# Altium footprint library Sensor Brushless Driver V1.01.PcbLib: 18 footprints (part 2 of 2)
Each footprint in its own frame and in the unit in brackets; x right, y up, seen from the top. Pads: shape width x height; smd on the part's side, far side on the other; paste and mask are expansions set on the pad; w line width, h text height; cw(c..) or ccw(c..) is an arc to the next point about the centre after c.
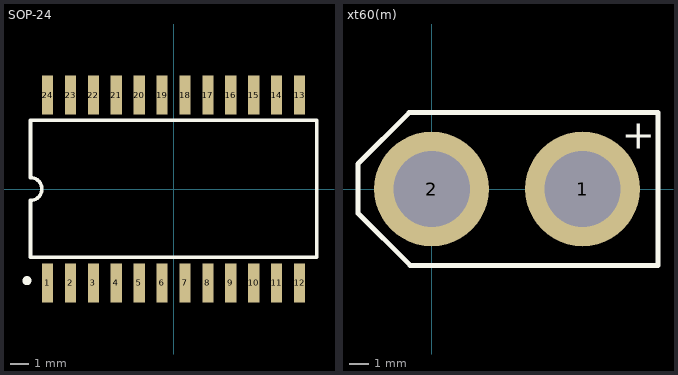
[diagram p1: the footprints below, top view; thin cyan lines are the x and y axes]

## SOP-24 [mil] "Plastic Small Outline; 24 Leads; Body Width 7.5 mm"
height 104.33
pads (24):
  rect 24.5x85 smd: 1(-275,-205) 2(-225,-205) 3(-175,-205) 4(-125,-205) 5(-75,-205) 6(-25,-205) 7(25,-205) 8(75,-205) 9(125,-205) 10(175,-205) 11(225,-205) 12(275,-205) 13(275,205) 14(225,205) 15(175,205) 16(125,205) 17(75,205) 18(25,205) 19(-25,205) 20(-75,205) 21(-125,205) 22(-175,205) 23(-225,205) 24(-275,205)
Top Overlay:
  circle w9.84: c-320.08,-200 r4.92
  lines w7.87: -312.5,-149.02 312.5,-149.02 312.5,150 -312.5,150 -312.5,25 cw(c-312.5,0) -312.5,-25 -312.5,-149.02

## xt60(m) [mm]
pads (2):
  round 6 hole 4: 1(7.9,0) 2(0,0)
Top Overlay:
  lines w0.254: -3.85,-1.275 -3.85,1.325 -1.175,4 11.85,4 11.85,-4 -1.125,-4 -3.85,-1.275
  text "+" at 9.957,2.108 h1.52
3D body: height 15.88, standoff -4.1, extent -3.917,-4.025 11.817,4.103